# EAGLE library part MA04-2W (library MA_HEADER)
2x4 angled male header 0.1" pitch
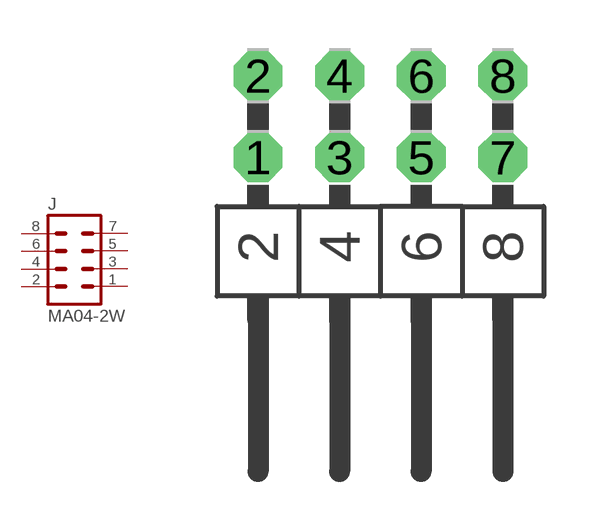
[diagram p1: symbol with the pads of MA04-2W; footprint MA04-2W]

Designator prefix J

## MA04-2W  [MA04-2W]
1  1  pas
2  2  pas
3  3  pas
4  4  pas
5  5  pas
6  6  pas
7  7  pas
8  8  pas

## Footprint MA04-2W (pad centres in mm)
PIN HEADER
drill 1.016 octagon: 1 -3.81,-1.27; 2 -3.81,1.27; 3 -1.27,-1.27; 4 -1.27,1.27; 5 1.27,-1.27; 6 1.27,1.27; 7 3.81,-1.27; 8 3.81,1.27